# Altium schematic symbol library alu.SchLib: 1 symbol
Pins are listed as number, name and electrical type; pins without a type are passive.

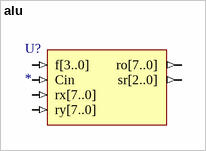
[diagram p0: symbol alu]

## alu
designator U?
pins: Cin (in), f[3..0] (in), ro[7..0] (out), rx[7..0] (in), ry[7..0] (in), sr[2..0] (out)